# EAGLE library part CARDEDGE36M (library sasaji_parts)
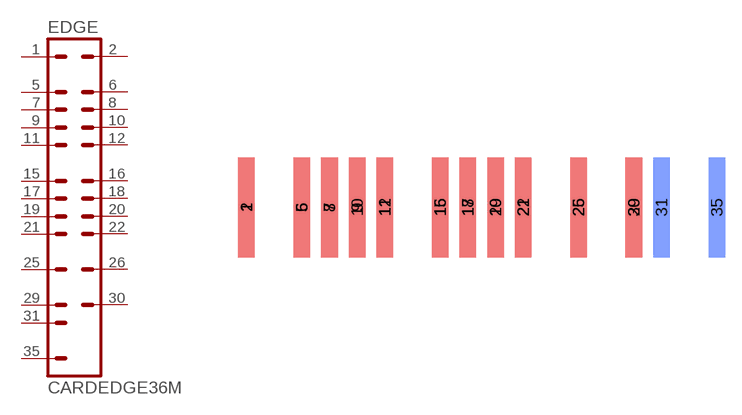
[diagram p2: symbol with the pads of PM; footprint PM]

Designator prefix EDGE

## CARDEDGE36M  [PM]
1  1  pas
2  2  pas
5  5  pas
6  6  pas
7  7  pas
8  8  pas
9  9  pas
10  10  pas
11  11  pas
12  12  pas
15  15  pas
16  16  pas
17  17  pas
18  18  pas
19  19  pas
20  20  pas
21  21  pas
22  22  pas
25  25  pas
26  26  pas
29  29  pas
30  30  pas
31  31  pas
35  35  pas

## Footprint PM (pad centres in mm)
smd 1.524 x 9.144 bottom: 1 -22.86,0; 5 -17.78,0; 7 -15.24,0; 9 -12.7,0; 11 -10.16,0; 15 -5.08,0; 17 -2.54,0; 19 0,0; 21 2.54,0; 25 7.62,0; 29 12.7,0; 31 15.24,0; 35 20.32,0
smd 1.524 x 9.144: 2 -22.86,0; 6 -17.78,0; 8 -15.24,0; 10 -12.7,0; 12 -10.16,0; 16 -5.08,0; 18 -2.54,0; 20 0,0; 22 2.54,0; 26 7.62,0; 30 12.7,0